# Altium footprint library Degson-uni-2P-35.PcbLib: 1 footprints
Each footprint in its own frame and in the unit in brackets; x right, y up, seen from the top. Pads: shape width x height; smd on the part's side, far side on the other; paste and mask are expansions set on the pad; w line width, h text height; cw(c..) or ccw(c..) is an arc to the next point about the centre after c.
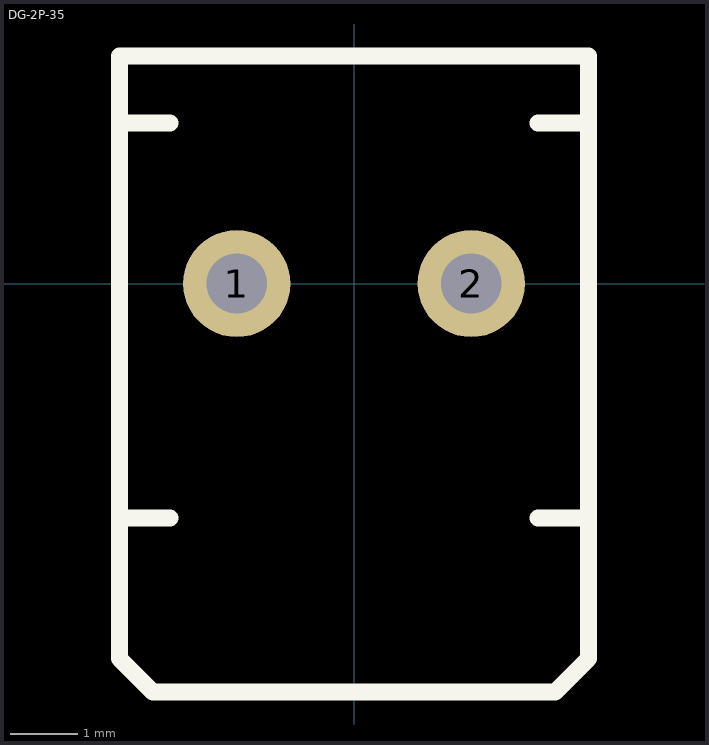
[diagram p0: the footprint, top view; thin cyan lines are the x and y axes]

## DG-2P-35 [mm]
pads (2):
  round 1.6 hole 0.9: 1(-1.75,0) 2(1.75,0)
Top Overlay:
  lines w0.254: -3.5,-3.5 -2.75,-3.5 ; -3.5,2.4 -2.75,2.4 ; 2.75,-3.5 3.5,-3.5 ; 2.75,2.4 3.5,2.4 ; -3.5,-5.6 -3,-6.1 3,-6.1 3.5,-5.6 3.5,3.4 -3.5,3.4 -3.5,-5.6